# Altium schematic symbol library bjt.SchLib: 3 symbols
Pins are listed as number, name and electrical type; pins without a type are passive.

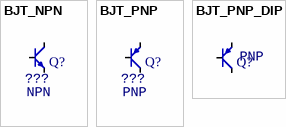
[diagram p0: symbols BJT_NPN to BJT_PNP_DIP]

## BJT_NPN
designator Q?, comment Type: NPN  (hidden comment: ???)
Transistor; Value: ???
footprint _SOT23-3
pins: 1 B, 2 E, 3 C

## BJT_PNP
designator Q?, comment Type: ???  (hidden comment: PNP)
Transistor; Value: PNP
footprint _SOT23-3
pins: 1 B, 2 E, 3 C

## BJT_PNP_DIP
designator Q?, comment PNP
Transistor; Value: PNP
footprint TO-92_HDR
footprint TO-92
pins: 1 E, 2 B, 3 C